# EAGLE library part OG-DISPLAY_KINGBRIGHT-PDC54-11 (library braids_v50)
Kingbright PDC54-11GWA ; also compatible with LITE-On LTP-3784G or Avago HDSP-A27C
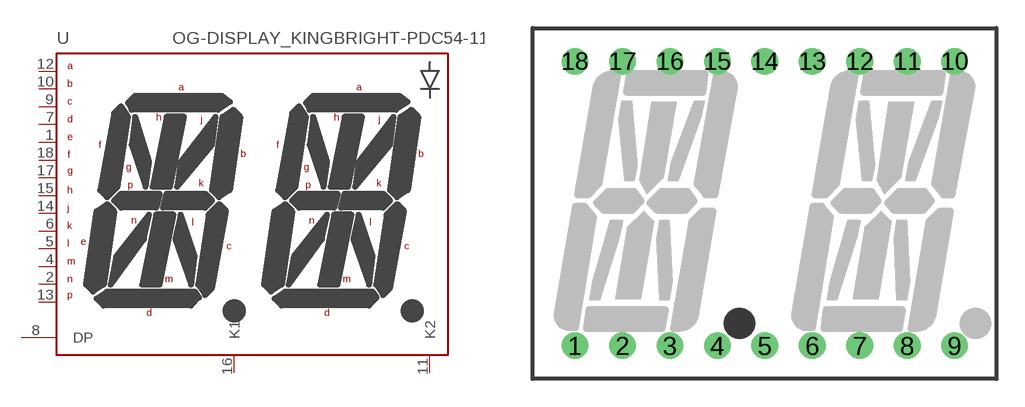
[diagram p6: symbol with the pads of OG-DISPLAY_PDC54; footprint OG-DISPLAY_PDC54]

Designator prefix -

## OG-DISPLAY_KINGBRIGHT-PDC54-11  [OG-DISPLAY_PDC54]
1  E  pas
2  N  pas
4  M  pas
5  L  pas
6  K  pas
7  D  pas
8  DP  pas
9  C  pas
10  B  pas
11  K2  pas
12  A  pas
13  P  pas
14  J  pas
15  H  pas
16  K1  pas
17  G  pas
18  F  pas

## Footprint OG-DISPLAY_PDC54 (pad centres in mm)
14.22mm (0.56INCH) DUAL DIGIT NUMERIC DISPLAYS Source: DA56-11SRWA.pdf
drill 0.8 pad 1.422: 1 -10.16,-7.62; 2 -7.62,-7.62; 3 -5.08,-7.62; 4 -2.54,-7.62; 5 0,-7.62; 6 2.54,-7.62; 7 5.08,-7.62; 8 7.62,-7.62; 9 10.16,-7.62; 10 10.16,7.62; 11 7.62,7.62; 12 5.08,7.62; 13 2.54,7.62; 14 0,7.62; 15 -2.54,7.62; 16 -5.08,7.62; 17 -7.62,7.62; 18 -10.16,7.62